# Altium footprint library 6_to_14_Pin.PcbLib: 54 footprints (part 2 of 4)
Each footprint in its own frame and in the unit in brackets; x right, y up, seen from the top. Pads: shape width x height; smd on the part's side, far side on the other; paste and mask are expansions set on the pad; w line width, h text height; cw(c..) or ccw(c..) is an arc to the next point about the centre after c.
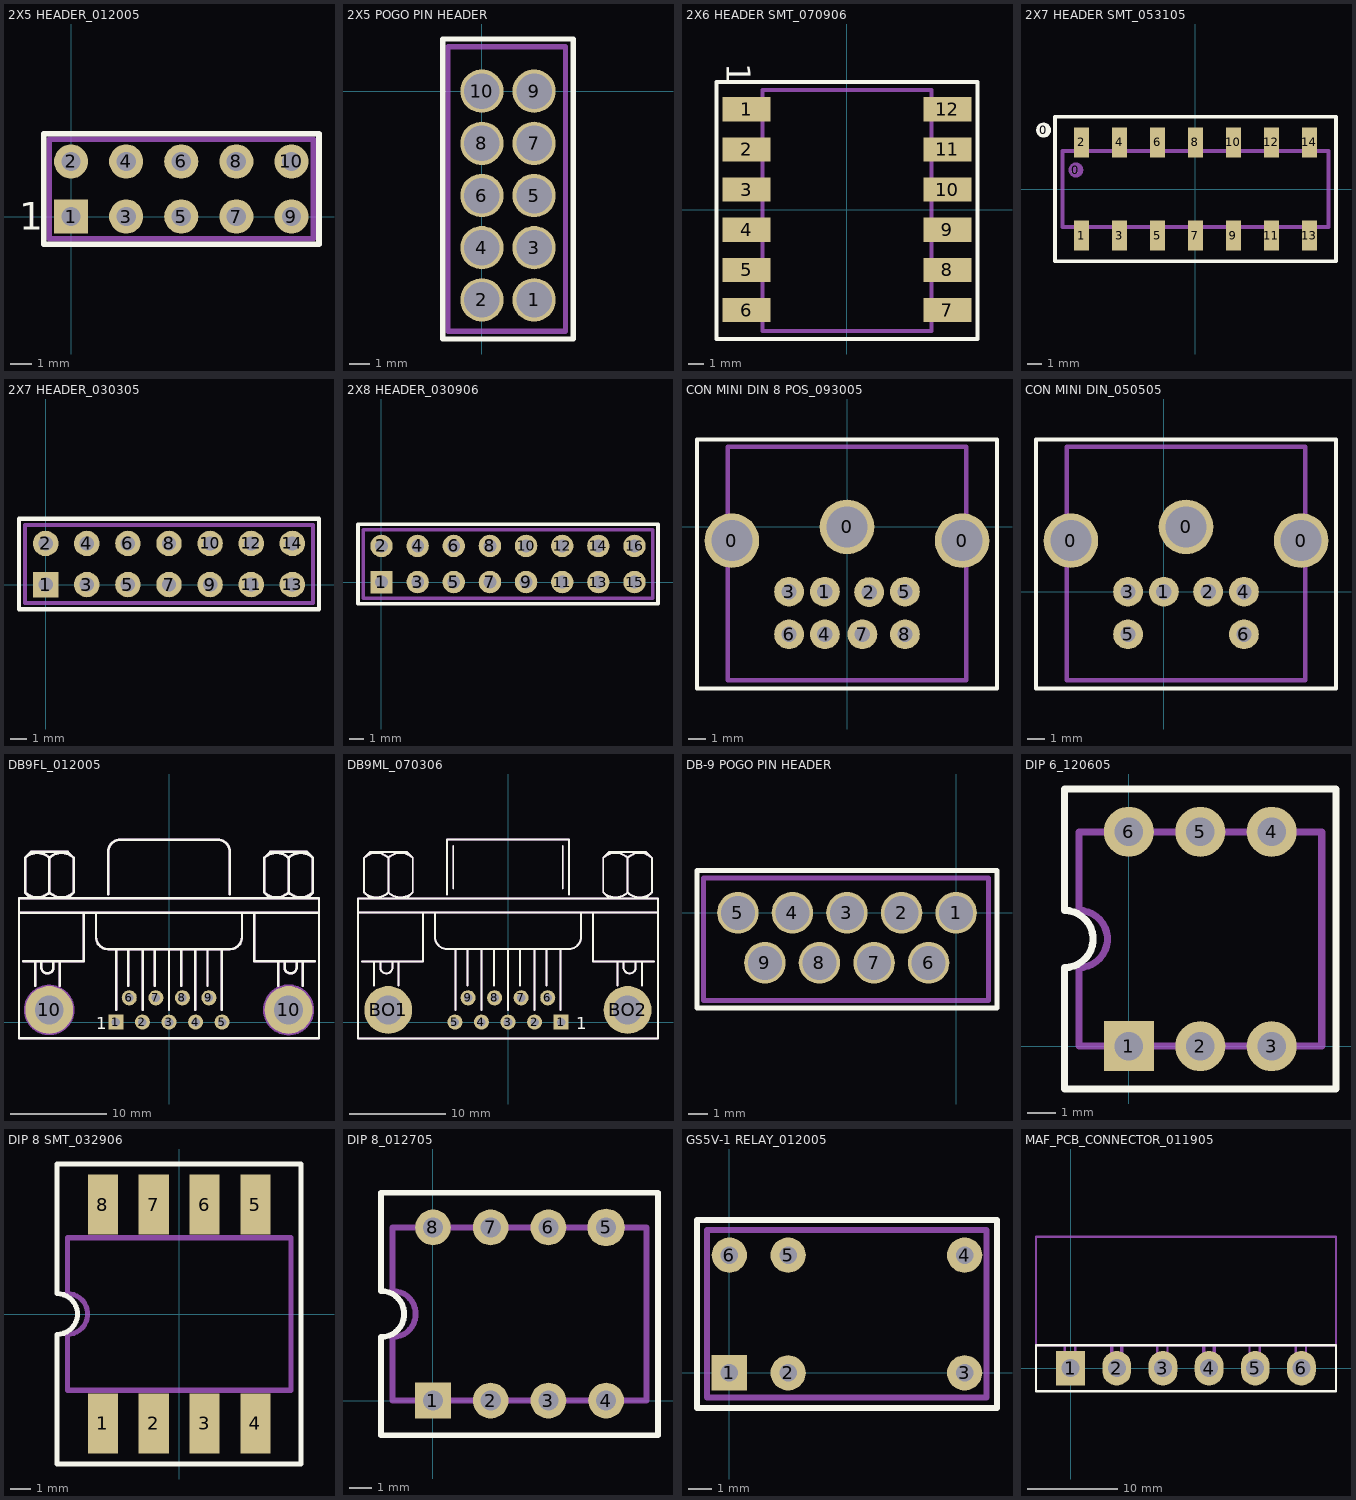
[diagram p1: the footprints below, top view; thin cyan lines are the x and y axes]

## 2X5 HEADER_012005 [mil] "TH"
height 500
pads (10):
  rect 62x62 hole 35: 1(0,0)
  round 62 hole 35: 2(0,100) 3(100,0) 4(100,100) 5(200,0) 6(200,100) 7(300,0) 8(300,100) 9(400,0) 10(400,100)
Top Overlay:
  lines w10: -50,-50 -50,150 450,150 450,-50 -50,-50
  text "1" at -94.49,-23.62 h50
Assembly Outline:
  lines w10: -40,-40 440,-40 440,140 -40,140 -40,-40 ; -10,-10 10,-10 10,10 -10,10 -10,-10 ; -10,90 10,90 10,110 -10,110 -10,90 ; 90,-10 110,-10 110,10 90,10 90,-10 ; 90,90 110,90 110,110 90,110 90,90 ; 190,-10 210,-10 210,10 190,10 190,-10 ; 190,90 210,90 210,110 190,110 190,90 ; 290,-10 310,-10 310,10 290,10 290,-10 ; 290,90 310,90 310,110 290,110 290,90 ; 390,-10 410,-10 410,10 390,10 390,-10 ; 390,90 410,90 410,110 390,110 390,90
Assembly Designator:
  text ".Designator" at -43,-92 h40
Assembly Comment:
  text ".Comment" at -40,153 h40

## 2X5 POGO PIN HEADER [mil] "TH"
height 350
pads (10):
  round 83 hole 68: 1(100,-400) 2(0,-400) 3(100,-300) 4(0,-300) 5(100,-200) 6(0,-200) 7(100,-100) 8(0,-100) 9(100,0) 10(0,0)
Top Overlay:
  lines w10: -75,-475 -75,100 100,100 175,100 175,-350 175,-475 0,-475 -75,-475
Assembly Outline:
  lines w10: -65,-460 160,-460 160,85 -65,85 -65,-460
Assembly Designator:
  text ".Designator" at -5,125 h40
Assembly Comment:
  text ".Comment" at -120,-530 h40

## 2X6 HEADER SMT_070906 [mil] "SMT"
pads (12):
  rect 120x60 smd: 1(-250,250) 2(-250,150) 3(-250,50) 4(-250,-50) 5(-250,-150) 6(-250,-250) 7(250,-250) 8(250,-150) 9(250,-50) 10(250,50) 11(250,150) 12(250,250)
Top Overlay:
  lines w10: -325,-322.2 -325,-299.7 -325,317.8 -110,317.8 325,317.8 325,225.3 325,-322.2 -110,-322.2 -325,-322.2
  text "1" at -300,365 h60
Assembly Outline:
  lines w10: -210,-265 -270,-265 -270,-250 -270,-235 -210,-235 ; -210,-165 -270,-165 -270,-150 -270,-135 -210,-135 ; -210,-65 -270,-65 -270,-50 -270,-35 -210,-35 ; -210,35 -270,35 -270,50 -270,65 -210,65 ; -210,135 -270,135 -270,150 -270,165 -210,165 ; -210,235 -270,235 -270,250 -270,265 -210,265 ; 210,-265 270,-265 270,-250 270,-235 210,-235 ; 210,-165 270,-165 270,-150 270,-135 210,-135 ; 210,-65 270,-65 270,-50 270,-35 210,-35 ; 210,35 270,35 270,50 270,65 210,65 ; 210,135 270,135 270,150 270,165 210,165 ; 210,235 270,235 270,250 270,265 210,265 ; -210,-301.97 210,-301.97 210,298.03 -110,298.03 -210,298.03 -210,-301.97
Assembly Designator:
  text ".Designator" at -90,-10 h40
Assembly Comment:
  text ".Comment" at -60,-75 h40

## 2X7 HEADER SMT_053105 [mil] "SMT"
height 350
pads (16):
  round 40 on Top Overlay: 0(-400,155)
  round 40 on Mech1: 0(-315,50)
  rect 40x78 smd: 1(-300,-122.5) 2(-300,122.5) 3(-200,-122.5) 4(-200,122.5) 5(-100,-122.5) 6(-100,122.5) 7(0,-122.5) 8(0,122.5) 9(100,-122.5) 10(100,122.5) 11(200,-122.5) 12(200,122.5) 13(300,-122.5) 14(300,122.5)
Top Overlay:
  lines w10: -370,-190 -370,0 -370,190 350,190 370,190 370,0 370,-190 350,-190 -370,-190
Assembly Outline:
  lines w10: -350,-100 350,-100 350,100 -350,100 -350,-100 ; -310,-140 -310,-100 -290,-100 -290,-140 -300,-140 -310,-140 ; -310,100 -310,140 -300,140 -290,140 -290,100 -310,100 ; -210,-140 -210,-100 -190,-100 -190,-140 -200,-140 -210,-140 ; -210,100 -210,140 -200,140 -190,140 -190,100 -210,100 ; -110,-140 -110,-100 -90,-100 -90,-140 -100,-140 -110,-140 ; -110,100 -110,140 -100,140 -90,140 -90,100 -110,100 ; -10,-140 -10,-100 10,-100 10,-140 0,-140 -10,-140 ; -10,100 -10,140 0,140 10,140 10,100 -10,100 ; 90,-140 90,-100 110,-100 110,-140 100,-140 90,-140 ; 90,100 90,140 100,140 110,140 110,100 90,100 ; 190,-140 190,-100 210,-100 210,-140 200,-140 190,-140 ; 190,100 190,140 200,140 210,140 210,100 190,100 ; 290,-140 290,-100 310,-100 310,-140 300,-140 290,-140 ; 290,100 290,140 300,140 310,140 310,100 290,100
Assembly Designator:
  text ".Designator" at -35,10 h40
Assembly Comment:
  text ".Comment" at -150,-60 h40

## 2X7 HEADER_030305 [mil] "TH"
height 350
pads (14):
  rect 62x62 hole 35: 1(0,0)
  round 62 hole 35: 2(0,100) 3(100,0) 4(100,100) 5(200,0) 6(200,100) 7(300,0) 8(300,100) 9(400,0) 10(400,100) 11(500,0) 12(500,100) 13(600,0) 14(600,100)
Top Overlay:
  lines w10: -65,-60 665,-60 665,160 40,160 -65,160 -65,-60
Assembly Outline:
  lines w8: -12,-13 -12,12 13,12 13,-13 -12,-13 ; -12,87 -12,112 13,112 13,87 -12,87 ; 88,-13 88,12 113,12 113,-13 88,-13 ; 88,87 88,112 113,112 113,87 88,87 ; 188,-13 188,12 213,12 213,-13 188,-13 ; 188,87 188,112 213,112 213,87 188,87 ; 288,-13 288,12 313,12 313,-13 288,-13 ; 288,87 288,112 313,112 313,87 288,87 ; 388,-13 388,12 413,12 413,-13 388,-13 ; 388,87 388,112 413,112 413,87 388,87 ; 488,-13 488,12 513,12 513,-13 488,-13 ; 488,87 488,112 513,112 513,87 488,87 ; 588,-13 588,12 613,12 613,-13 588,-13 ; 588,87 588,112 613,112 613,87 588,87
  lines w10: -50,-45 650,-45 650,145 -50,145 -50,0 -50,-45
Assembly Designator:
  text ".Designator" at 8,33 h40
Assembly Comment:
  text ".Comment" at -21,-100 h40

## 2X8 HEADER_030906 [mil] "TH"
height 350
pads (16):
  rect 62x62 hole 35: 1(0,0)
  round 62 hole 35: 2(0,100) 3(100,0) 4(100,100) 5(200,0) 6(200,100) 7(300,0) 8(300,100) 9(400,0) 10(400,100) 11(500,0) 12(500,100) 13(600,0) 14(600,100) 15(700,0) 16(700,100)
Top Overlay:
  lines w10: -65,-60 -65,160 40,160 765,160 765,-60 -65,-60
Assembly Outline:
  lines w8: -12,-13 13,-13 13,12 -12,12 -12,-13 ; -12,87 13,87 13,112 -12,112 -12,87 ; 88,-13 113,-13 113,12 88,12 88,-13 ; 88,87 113,87 113,112 88,112 88,87 ; 188,-13 213,-13 213,12 188,12 188,-13 ; 188,87 213,87 213,112 188,112 188,87 ; 288,-13 313,-13 313,12 288,12 288,-13 ; 288,87 313,87 313,112 288,112 288,87 ; 388,-13 413,-13 413,12 388,12 388,-13 ; 388,87 413,87 413,112 388,112 388,87 ; 488,-13 513,-13 513,12 488,12 488,-13 ; 488,87 513,87 513,112 488,112 488,87 ; 588,-13 613,-13 613,12 588,12 588,-13 ; 588,87 613,87 613,112 588,112 588,87 ; 688,-13 713,-13 713,12 688,12 688,-13 ; 688,87 713,87 713,112 688,112 688,87
  lines w10: -50,-45 -50,0 -50,145 750,145 750,-45 -50,-45
Assembly Designator:
  text ".Designator" at 160,35 h40
Assembly Comment:
  text ".Comment" at -21,-100 h40

## CON MINI DIN 8 POS_093005 [mm] "TH"
height 13.081
pads (11):
  round 3.2 hole 2.4: 0(-6.75,-0.8) 0(0,0) 0(6.75,-0.8)
  round 1.75 hole 0.9: 1(-1.3,-3.8) 2(1.3,-3.825) 3(-3.4,-3.8) 4(-1.3,-6.3) 5(3.4,-3.8) 6(-3.4,-6.3) 7(0.9,-6.3) 8(3.4,-6.3)
Top Overlay:
  lines w0.254: -8.8,-9.475 -8.8,-0.8 -8.8,5.125 0,5.125 8.8,5.125 8.8,-0.8 8.8,-9.475 0,-9.475 -8.8,-9.475
Assembly Outline:
  lines w0.254: -7,-9 -7,4.7 0,4.7 7,4.7 7,-9 0,-9 -7,-9
  text "FRONT" at -3.375,2.725 h1.52
Assembly Designator:
  text ".Designator" at -0.725,-7.3 h1.02
Assembly Comment:
  text ".Comment" at -4.525,-10.75 h1.02

## CON MINI DIN_050505 [mm] "TH"
height 13.081
pads (9):
  round 3.2 hole 2.4: 0(-5.45,3) 0(1.3,3.8) 0(8.05,3)
  round 1.75 hole 0.9: 1(0,0) 2(2.6,0) 3(-2.1,0) 4(4.7,0) 5(-2.1,-2.5) 6(4.7,-2.5)
Top Overlay:
  lines w0.254: -7.5,-5.675 1.3,-5.675 10.1,-5.675 10.1,3 10.1,8.925 1.3,8.925 -7.5,8.925 -7.5,3 -7.5,-5.675
Assembly Outline:
  lines w0.254: -5.7,-5.2 1.3,-5.2 8.3,-5.2 8.3,8.5 1.3,8.5 -5.7,8.5 -5.7,-5.2
  text "FRONT" at -2.075,6.525 h1.52
Assembly Designator:
  text ".Designator" at 0.575,-3.5 h1.02
Assembly Comment:
  text ".Comment" at -3.225,-6.95 h1.02

## DB9FL_012005 [mil] "TH"
height 500
pads (11):
  rect 62x62 hole 35: 1(-218.33,0)
  round 62 hole 35: 2(-109.17,0) 3(0,0) 4(109.17,0) 5(218.33,0) 6(-163.33,100) 7(-54.17,100) 8(55,100) 9(164.17,100)
  round 196.67 hole 118.33: 10(-492.5,50) 10(491.67,50)
Top Overlay:
  lines w10: -616.67,450 616.67,450 ; -600,250 -350,250 -350,450 ; -591.75,533.25 ccw(c-541.67,583.33) -491.58,533.25 ; -591.75,675.09 cw(c-541.67,625) -491.58,675.09 ; -566.67,508.33 -591.67,533.33 -591.67,675 -566.67,700 -416.67,700 -391.67,675 -391.67,533.33 -416.67,508.33 ; -550,150 -550,250 ; -525,250 -525,225 ccw(c-500,225) -475,225 -475,250 ; -491.75,533.25 ccw(c-441.67,583.33) -391.58,533.25 ; -491.75,675.09 cw(c-441.67,625) -391.58,675.09 ; -491.67,533.33 -491.67,675 ; -450,150 -450,250 ; -300,450 -300,350 ccw(c-250,350) -250,300 250,300 ccw(c250,350) 300,350 300,450 ; -250,525 -250,700 cw(c-200,700) -200,750 200,750 cw(c200,700) 250,700 250,525 ; -216.67,50 -216.67,300 ; -166.67,150 -166.67,300 ; -108.33,50 -108.33,300 ; -58.33,150 -58.33,300 ; 0,50 0,300 ; 50,150 50,300 ; 108.33,50 108.33,300 ; 158.33,150 158.33,300 ; 216.67,50 216.67,300 ; 350,450 350,250 600,250 ; 391.58,533.25 ccw(c441.67,583.33) 491.75,533.25 ; 391.58,675.09 cw(c441.67,625) 491.75,675.09 ; 416.67,508.33 391.67,533.33 391.67,675 416.67,700 566.67,700 591.67,675 591.67,533.33 566.67,508.33 ; 450,150 450,250 ; 475,250 475,225 ccw(c500,225) 525,225 525,250 ; 491.58,533.25 ccw(c541.67,583.33) 591.75,533.25 ; 491.58,675.09 cw(c541.67,625) 591.75,675.09 ; 491.67,533.33 491.67,675 ; 550,150 550,250 ; -616.67,-66.67 -616.67,508.33 616.67,508.33 616.67,-66.67 -616.67,-66.67
  text "1" at -300,-30 h50
Assembly Outline:
  circle w10: c-492.5,50 r99.15
  circle w10: c491.67,50 r100.14
  lines w10: -616.67,450 616.67,450 ; -600,250 -350,250 -350,450 ; -591.75,533.25 ccw(c-541.67,583.33) -491.58,533.25 ; -591.75,675.09 cw(c-541.67,625) -491.58,675.09 ; -566.67,508.33 -591.67,533.33 -591.67,675 -566.67,700 -416.67,700 -391.67,675 -391.67,533.33 -416.67,508.33 ; -550,150 -550,250 ; -525,250 -525,225 ccw(c-500,225) -475,225 -475,250 ; -491.75,533.25 ccw(c-441.67,583.33) -391.58,533.25 ; -491.75,675.09 cw(c-441.67,625) -391.58,675.09 ; -491.67,533.33 -491.67,675 ; -450,150 -450,250 ; -300,450 -300,350 ccw(c-250,350) -250,300 250,300 ccw(c250,350) 300,350 300,450 ; -250,525 -250,700 cw(c-200,700) -200,750 200,750 cw(c200,700) 250,700 250,525 ; -216.67,50 -216.67,300 ; -166.67,150 -166.67,300 ; -108.33,50 -108.33,300 ; -58.33,150 -58.33,300 ; 0,50 0,300 ; 50,150 50,300 ; 108.33,50 108.33,300 ; 158.33,150 158.33,300 ; 216.67,50 216.67,300 ; 350,450 350,250 600,250 ; 391.58,533.25 ccw(c441.67,583.33) 491.75,533.25 ; 391.58,675.09 cw(c441.67,625) 491.75,675.09 ; 416.67,508.33 391.67,533.33 391.67,675 416.67,700 566.67,700 591.67,675 591.67,533.33 566.67,508.33 ; 450,150 450,250 ; 475,250 475,225 ccw(c500,225) 525,225 525,250 ; 491.58,533.25 ccw(c541.67,583.33) 591.75,533.25 ; 491.58,675.09 cw(c541.67,625) 591.75,675.09 ; 491.67,533.33 491.67,675 ; 550,150 550,250 ; -616.67,-66.67 -616.67,508.33 616.67,508.33 616.67,-66.67 -616.67,-66.67
Assembly Designator:
  text ".Designator" at -93.33,393 h40
Assembly Comment:
  text ".Comment" at -247.33,322 h40

## DB9ML_070306 [mil] "TH"
height 500
pads (11):
  rect 62x62 hole 35: 1(218.33,0)
  round 62 hole 35: 2(109.17,0) 3(0,0) 4(-109.17,0) 5(-218.33,0) 6(163.33,100) 7(54.17,100) 8(-55,100) 9(-164.17,100)
  round 196.67 hole 118.33: BO1(-492.5,50) BO2(491.67,50)
Top Overlay:
  lines w8: -616.67,450 616.67,450 ; -600,250 -350,250 -350,450 ; -591.75,533.25 ccw(c-541.67,583.33) -491.58,533.25 ; -591.75,675.09 cw(c-541.67,625) -491.58,675.09 ; -566.67,508.33 -591.67,533.33 -591.67,675 -566.67,700 -416.67,700 -391.67,675 -391.67,533.33 -416.67,508.33 ; -550,150 -550,250 ; -525,250 -525,225 ccw(c-500,225) -475,225 -475,250 ; -491.75,533.25 ccw(c-441.67,583.33) -391.58,533.25 ; -491.75,675.09 cw(c-441.67,625) -391.58,675.09 ; -491.67,533.33 -491.67,675 ; -450,150 -450,250 ; -300,450 -300,350 ccw(c-250,350) -250,300 250,300 ccw(c250,350) 300,350 300,450 ; -250,525 -250,750 250,750 250,525 ; -225,550 -225,725 ; -216.67,50 -216.67,300 ; -166.67,150 -166.67,300 ; -108.33,50 -108.33,300 ; -58.33,150 -58.33,300 ; 0,50 0,300 ; 50,150 50,300 ; 108.33,50 108.33,300 ; 158.33,150 158.33,158.33 158.33,300 ; 216.67,50 216.67,300 ; 225,550 225,725 ; 350,450 350,250 600,250 ; 391.58,533.25 ccw(c441.67,583.33) 491.75,533.25 ; 391.58,675.09 cw(c441.67,625) 491.75,675.09 ; 416.67,508.33 391.67,533.33 391.67,675 416.67,700 566.67,700 591.67,675 591.67,533.33 566.67,508.33 ; 450,150 450,250 ; 475,250 475,225 ccw(c500,225) 525,225 525,250 ; 491.58,533.25 ccw(c541.67,583.33) 591.75,533.25 ; 491.58,675.09 cw(c541.67,625) 591.75,675.09 ; 491.67,533.33 491.67,675 ; 550,150 550,250 ; -616.67,-66.67 616.67,-66.67 616.67,508.33 -616.67,508.33 -616.67,-66.67
  text "1" at 280,-30 h50
Assembly Outline:
  lines w8: -616.67,450 616.67,450 ; -600,250 -350,250 -350,450 ; -591.75,533.25 ccw(c-541.67,583.33) -491.58,533.25 ; -591.75,675.09 cw(c-541.67,625) -491.58,675.09 ; -566.67,508.33 -591.67,533.33 -591.67,675 -566.67,700 -416.67,700 -391.67,675 -391.67,533.33 -416.67,508.33 ; -550,150 -550,250 ; -525,250 -525,225 ccw(c-500,225) -475,225 -475,250 ; -491.75,533.25 ccw(c-441.67,583.33) -391.58,533.25 ; -491.75,675.09 cw(c-441.67,625) -391.58,675.09 ; -491.67,533.33 -491.67,675 ; -450,150 -450,250 ; -300,450 -300,350 ccw(c-250,350) -250,300 250,300 ccw(c250,350) 300,350 300,450 ; -250,525 -250,750 250,750 250,525 ; -225,550 -225,725 ; -216.67,50 -216.67,300 ; -166.67,150 -166.67,300 ; -108.33,50 -108.33,300 ; -58.33,150 -58.33,300 ; 0,50 0,300 ; 50,150 50,300 ; 108.33,50 108.33,300 ; 158.33,150 158.33,158.33 158.33,300 ; 216.67,50 216.67,300 ; 225,550 225,725 ; 350,450 350,250 600,250 ; 391.58,533.25 ccw(c441.67,583.33) 491.75,533.25 ; 391.58,675.09 cw(c441.67,625) 491.75,675.09 ; 416.67,508.33 391.67,533.33 391.67,675 416.67,700 566.67,700 591.67,675 591.67,533.33 566.67,508.33 ; 450,150 450,250 ; 475,250 475,225 ccw(c500,225) 525,225 525,250 ; 491.58,533.25 ccw(c541.67,583.33) 591.75,533.25 ; 491.58,675.09 cw(c541.67,625) 591.75,675.09 ; 491.67,533.33 491.67,675 ; 550,150 550,250 ; -616.67,-66.67 616.67,-66.67 616.67,508.33 -616.67,508.33 -616.67,-66.67

## DB-9 POGO PIN HEADER [mil] "TH"
height 350
pads (9):
  round 83 hole 68: 1(0,0) 2(-109.17,0) 3(-218.33,0) 4(-327.5,0) 5(-436.67,0) 6(-55,-100) 7(-164.17,-100) 8(-273.33,-100) 9(-382.5,-100)
Top Layer:
  lines w20: -436.67,0 -434.81,1.85 ; -219.81,1.48 -218.33,0 ; -109.81,0.65 -109.17,0
Top Overlay:
  lines w10: -518.33,-190 81.67,-190 81.67,85 -218.33,85 -518.33,85 -518.33,-190
Assembly Outline:
  lines w10: -505,-175 -505,70 65,70 65,-175 -505,-175
Assembly Designator:
  text ".Designator" at -270,110 h40
Assembly Comment:
  text ".Comment" at -420,-250 h40

## DIP 6_120605 [mil] "TH"
height 160
pads (6):
  rect 70x70 hole 40: 1(0,0)
  round 70 hole 40: 2(100,0) 3(200,0) 4(200,300) 5(100,300) 6(0,300)
Top Overlay:
  lines w10: -90,-60 290,-60 290,360 0,360 -90,360 -90,190 cw(c-90,150) -90,110 -90,-60
Assembly Outline:
  lines w10: -70,0 270,0 270,300 -70,300 -70,190 cw(c-70,150) -70,110 -70,0
Assembly Designator:
  text ".Designator" at 54.13,134.84 h40
Assembly Comment:
  text ".Comment" at -36.42,62.01 h40

## DIP 8 SMT_032906 [mm] "TH"
height 3.6
pads (8):
  rect 1.5x3 smd: 1(-3.81,-5.461) 2(-1.27,-5.461) 3(1.27,-5.461) 4(3.81,-5.461) 5(3.81,5.461) 6(1.27,5.461) 7(-1.27,5.461) 8(-3.81,5.461)
Top Overlay:
  lines w0.254: -6.096,-7.493 -6.096,-5.334 -6.096,-1.016 ccw(c-6.096,0) -6.096,1.016 -6.096,5.334 -6.096,7.493 6.096,7.493 6.096,5.334 6.096,-5.334 6.096,-7.493 -6.096,-7.493
Assembly Outline:
  lines w0.254: -5.588,-3.81 3.81,-3.81 5.588,-3.81 5.588,3.81 3.81,3.81 -5.588,3.81 -5.588,1.016 cw(c-5.588,0) -5.588,-1.016 -5.588,-3.81
Assembly Designator:
  text ".Designator" at -2.184,-0.533 h1.02
Assembly Comment:
  text ".Comment" at -4.801,-2.489 h1.02

## DIP 8_012705 [mil] "TH"
height 160
pads (8):
  rect 62x62 hole 35: 1(0,0)
  round 62 hole 35: 2(100,0) 3(200,0) 4(300,0) 6(200,300) 7(100,300) 8(0,300)
  round 65 hole 35: 5(300,300)
Top Overlay:
  lines w10: -90,-60 -90,110 ccw(c-90,150) -90,190 -90,360 0,360 390,360 390,-60 -90,-60
Assembly Outline:
  lines w10: -70,0 -70,110 ccw(c-70,150) -70,190 -70,300 300,300 370,300 370,0 300,0 -70,0
Assembly Designator:
  text ".Designator" at 64,129 h40
Assembly Comment:
  text ".Comment" at -39,52 h40

## GS5V-1 RELAY_012005 [mil] "TH"
height 390
pads (6):
  rect 60x60 hole 30: 1(0,0)
  round 60 hole 30: 2(100,0) 3(400,0) 4(400,200) 5(100,200) 6(0,200)
Top Overlay:
  lines w10: -55,-60 -55,260 120,260 455,260 455,-60 -55,-60
Assembly Outline:
  lines w10: -38,-42 -38,243 437,243 437,-42 -38,-42
Assembly Designator:
  text ".Designator" at 149,87 h40
Assembly Comment:
  text ".Comment" at -3,-21 h40

## MAF_PCB_CONNECTOR_011905 [mil] "FEATURE TH PCB"
pads (6):
  rect 125x150 hole 78: 1(0,0)
  oval 125x150 hole 78: 2(200,0) 3(400,0) 4(600,0) 5(800,0) 6(1000,0)
Top Overlay:
  lines w10: -150,-100 1150,-100 1150,100 -150,100 -150,-100
Assembly Outline:
  lines w10: -25,100 -25,0 20,0 20,100 ; 175,100 175,0 220,0 220,100 ; 180,100 180,0 225,0 225,100 ; 575,100 575,0 620,0 620,100 ; 975,100 975,0 1020,0 1020,100 ; 375,0 375,100 375,0 ; 375,0 420,0 ; 375,0 420,0 ; 420,0 420,100 420,0 ; 580,0 580,100 580,0 ; 580,0 625,0 ; 580,0 625,0 ; 625,0 625,100 625,0 ; 775,0 775,100 ; 775,0 820,0 ; 775,0 775,100 ; 775,0 820,0 ; 775,0 775,100 ; 775,0 820,0 ; 820,0 820,100 ; 820,0 820,100 ; 820,0 820,100 ; -150,100 -150,570 1150,570 1150,100 -150,100
Assembly Designator:
  text ".Designator" at 445,-114 h40
Assembly Comment:
  text ".Comment" at 496,120 h40